# EAGLE library part CWF-7 (library gost_con_wf)
Разъем CWF шаг 2.50 mm
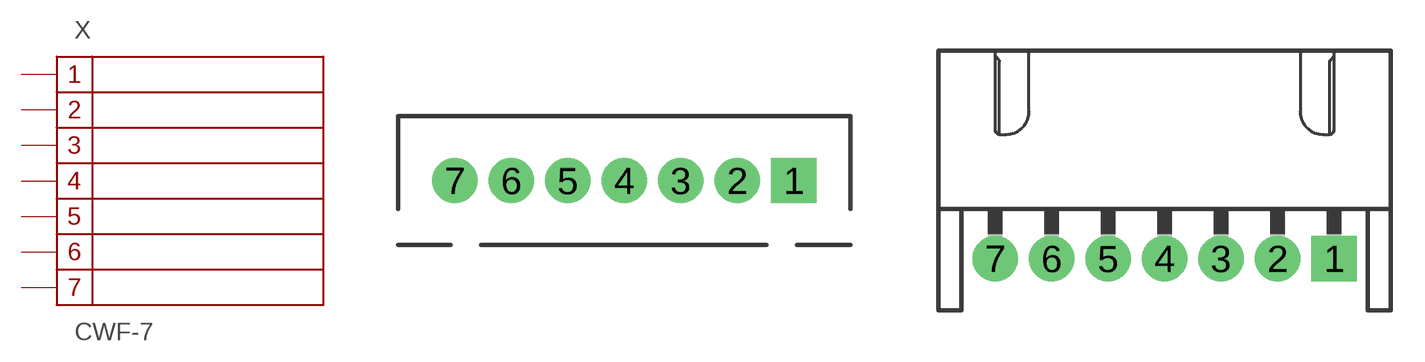
[diagram p1: symbol with the pads of CWF-7; footprints CWF-7, CWF-7R]

Designator prefix X

## CWF-7  [CWF-7]
1  1
2  2
3  3
4  4
5  5
6  6
7  7

## CWF-7R  [CWF-7R]
Pads as for CWF-7

## Footprint CWF-7 (pad centres in mm)
Разъем CWF-7 2.50mm
drill 1 pad 2 square: 1 7.5,0
drill 1 pad 2: 2 5,0; 3 2.5,0; 4 0,0; 5 -2.5,0; 6 -5,0; 7 -7.5,0

## Footprint CWF-7R (pad centres in mm)
Разъем CWF-7R 2.50mm h=9.2mm
drill 1 pad 2 square: 1 7.5,0
drill 1 pad 2: 2 5,0; 3 2.5,0; 4 0,0; 5 -2.5,0; 6 -5,0; 7 -7.5,0